# Altium schematic symbol library Bourns PEC12R-xxxxF-Sxxxx.SchLib: 1 symbol
Pins are listed as number, name and electrical type; pins without a type are passive.

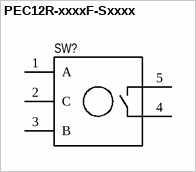
[diagram p0: symbol PEC12R-xxxxF-Sxxxx]

## PEC12R-xxxxF-Sxxxx
designator SW?
pins: 1 A, 2 C, 3 B, 4, 5